# EAGLE library part LM66100DCKR (library LM66100DCKR)
Check availability <https://pricing.snapeda.com/parts/LM66100DCKR/Texas%20Instruments/view-part?ref=eda>
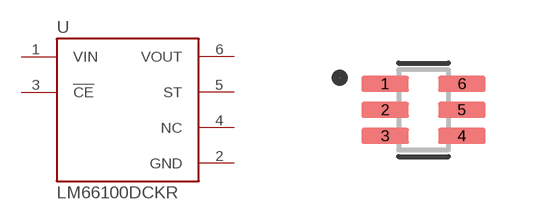
[diagram p0: symbol with the pads of SOT65P210X110-6N; footprint SOT65P210X110-6N]

Designator prefix U

## LM66100DCKR (Availability: In Stock; Check_prices: https://www.snapeda.com/parts/LM66100DCKR/Texas+Instruments/view-part/?ref=eda; Description: 1.5-V to 5.5-V, 1.5-A, 0.5-µA IQ ideal diode with integrated FET; MF: Texas Instruments; MP: LM66100DCKR; Package: SOT-SC70-6 Texas Instruments; Price: None; SnapEDA_Link: https://www.snapeda.com/parts/LM66100DCKR/Texas+Instruments/view-part/?ref=snap)  [SOT65P210X110-6N]
1  VIN  in
2  GND  pwr
3  !CE  in
4  NC  nc
5  ST  out
6  VOUT  out

## Footprint SOT65P210X110-6N (pad centres in mm)
smd 1.19 x 0.4: 1 -0.96,0.65; 2 -0.96,0; 3 -0.96,-0.65; 4 0.96,-0.65; 5 0.96,0; 6 0.96,0.65